# EAGLE library part HD7736 (library display-hp)
LED DISPLAY + - 1/2 character, decimal point right
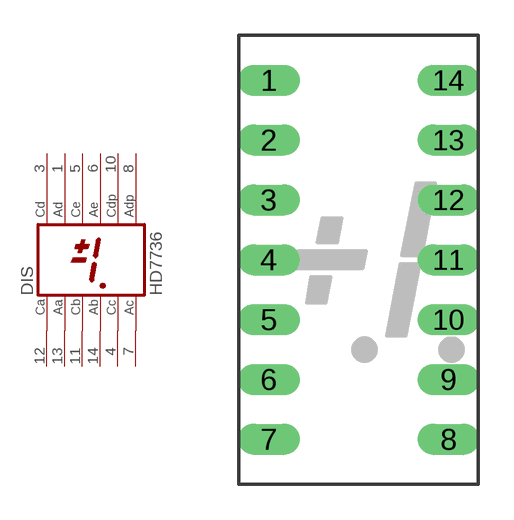
[diagram p35: symbol with the pads of HD7736; footprint HD7736]

Designator prefix DIS

## HD7736 (OC_FARNELL: unknown; OC_NEWARK: unknown)  [HD7736]
1  AD  pas
3  CD  pas
4  CC  pas
5  CE  pas
6  AE  pas
7  AC  pas
8  ADP  pas
10  CDP  pas
11  CB  pas
12  CA  pas
13  AA  pas
14  AB  pas

## Footprint HD7736 (pad centres in mm)
LED DISPLAY 8-mm + - 1/2 character, 2 decimal points
drill 0.813 long: 1 -3.81,7.62; 2 -3.81,5.08; 3 -3.81,2.54; 4 -3.81,0; 5 -3.81,-2.54; 6 -3.81,-5.08; 7 -3.81,-7.62; 8 3.81,-7.62; 9 3.81,-5.08; 10 3.81,-2.54; 11 3.81,0; 12 3.81,2.54; 13 3.81,5.08; 14 3.81,7.62